# Altium integrated library TSW-108-05-L-S.IntLib: 1 symbol
Pins are listed as number, name and electrical type; pins without a type are passive.

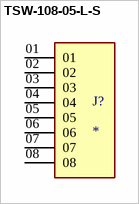
[diagram p0: symbol TSW-108-05-L-S]

## TSW-108-05-L-S
designator J?
Conn Unshrouded Header HDR 8 POS 2.54mm Solder ST Thru-Hole; MF: Samtec; MP: TSW-108-05-L-S; SnapEDA_Link: https://www.snapeda.com/parts/TSW-108-05-L-S/Samtec/view-part/?ref=snap; Package: None; Value: *; Check_prices: https://www.snapeda.com/parts/TSW-108-05-L-S/Samtec/view-part/?ref=eda
footprint SAMTEC_TSW-108-05-L-S
pins: 01, 02, 03, 04, 05, 06, 07, 08